# Altium integrated library WATECH IO BOARD.IntLib: 29 symbols
Pins are listed as number, name and electrical type; pins without a type are passive.

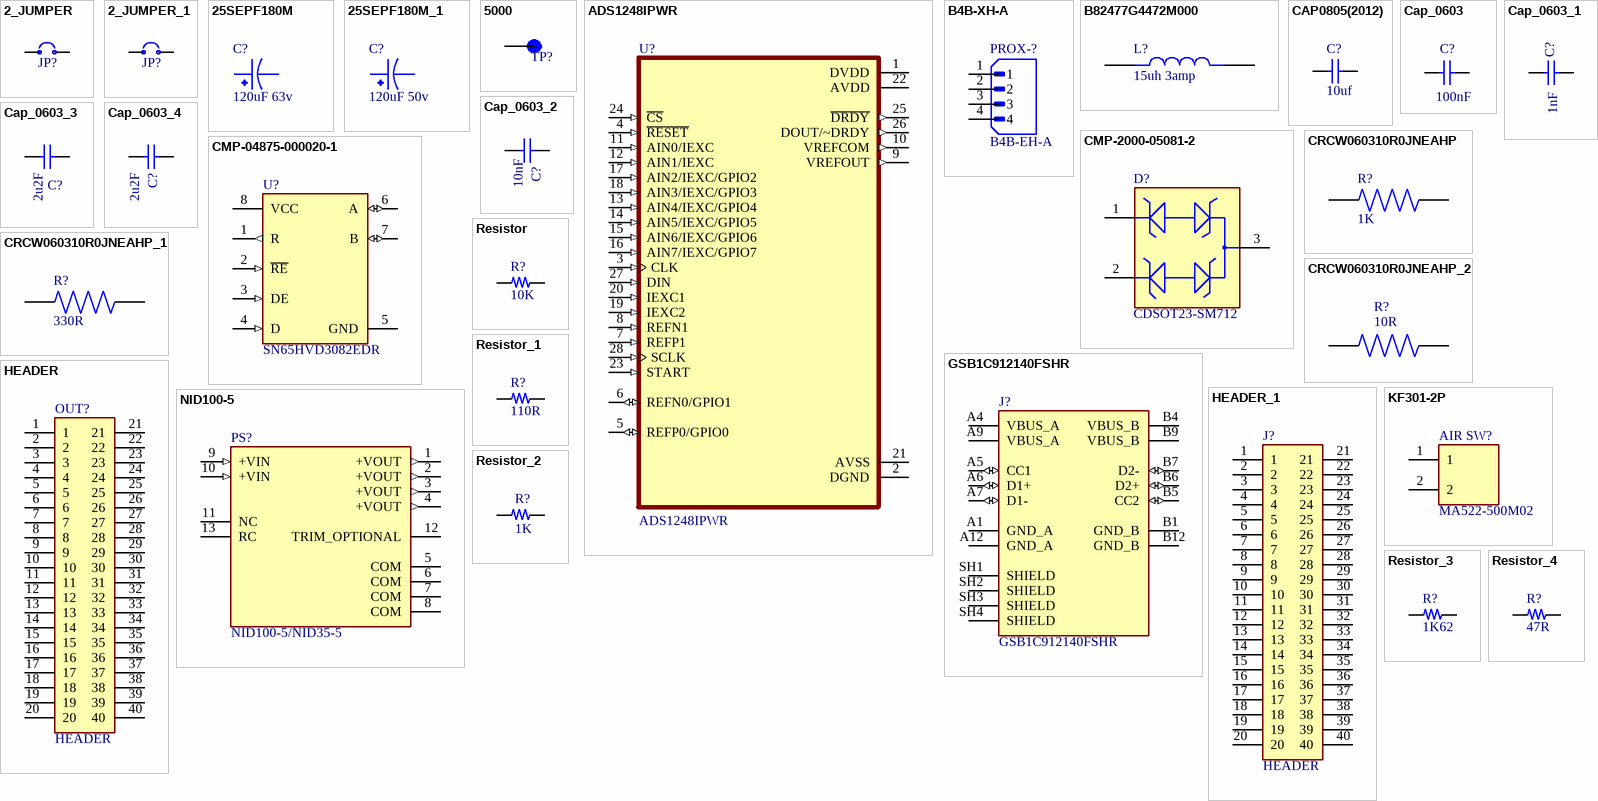
[diagram p0: symbols 2_JUMPER to Resistor_4]

## 2_JUMPER
designator JP?, comment Jumper  (value not drawn)
PH1.27-01-02PZD-XUNPU-Plugin,1×2 Pin 1.27mm Pin Headers ROHS; Manufacturer: XUNPU; Manufacturer Part Number: PH1.27-01-02PZD
footprint SULLINS_GRPB021VWVN-RC
pins: 1, 2

## 2_JUMPER_1
designator JP?, comment Jumper  (value not drawn)
Pin Header, Right Angle, Board-to-Board, 2.54 mm, 1 Rows, 2 Contacts, Through Hole Right Angle; Manufacturer: Wurth; Manufacturer Part Number: 61300211021
footprint HARWIN_M20-9990246
pins: 1, 2

## 25SEPF180M
designator C?, comment 120uF 63v
eCAP_GeneralPurpose_Panasonic_120uF-63V_pn-; Manufacturer Part Number: EEUFR1J121L; SnapEDA_Link: https://www.snapeda.com/parts/25SEPF180M/Panasonic/view-part/?ref=snap; Check_prices: https://www.snapeda.com/parts/25SEPF180M/Panasonic/view-part/?ref=eda; Availability: In Stock; Value: 120 uF; Manufacturer: Panasonic; Price: None; Package: RADIAL-2 Panasonic; Purchase-URL: https://pricing.snapeda.com/search/part/25SEPF180M/?ref=eda
footprint CAPPRD350W60D800H1200
footprint CAPPRD500W60D1000H1800
pins: 1, 2

## 25SEPF180M_1
designator C?, comment 120uF 50v
eCAP_GeneralPurpose_Panasonic_120uF-63V_pn-; Manufacturer Part Number: EEUFR1J121L; SnapEDA_Link: https://www.snapeda.com/parts/25SEPF180M/Panasonic/view-part/?ref=snap; Check_prices: https://www.snapeda.com/parts/25SEPF180M/Panasonic/view-part/?ref=eda; Availability: In Stock; Value: 120 uF; Manufacturer: Panasonic; Price: None; Package: RADIAL-2 Panasonic; Purchase-URL: https://pricing.snapeda.com/search/part/25SEPF180M/?ref=eda
footprint CAPPRD350W60D800H1200
footprint CAPPRD500W60D1000H1800
pins: 1, 2

## 5000
designator TP?  (value not drawn)
Test Point Miniature THM H .300 Nylon 46 Insulated Red PhosBronze/Silver | Keystone Electronics 5000; SnapEDA_Link: https://www.snapeda.com/parts/5000/Keystone/view-part/?ref=snap; Package: Test Point Keystone Electronics; Value: *; MF: Keystone Electronics; MP: 5000; Check_prices: https://www.snapeda.com/parts/5000/Keystone/view-part/?ref=eda
footprint KEYSTONE_5000
pins: TP

## ADS1248IPWR
designator U?
24-Bit, 2kSPS, 8-Ch Delta-Sigma ADC for Precision Sensor Measurement 28-TSSOP -40 to 125; Manufacturer: Texas Instruments; Manufacturer Part Number: ADS1248IPWR; Package: TSSOP-28 Texas Instruments; SnapEDA_Link: https://www.snapeda.com/parts/ADS1248IPWR/Texas%20Instruments/view-part/53511/?ref=snap; Check_prices: https://www.snapeda.com/parts/ADS1248IPWR/Texas%20Instruments/view-part/53511/?ref=eda; Purchase-URL: https://pricing.snapeda.com/search/part/ADS1248IPWR/?ref=eda; Availability: Warning; Value: *; Price: None
footprint SOP65P640X120-28N
footprint SOP65P640X120-28N
pins: 1 DVDD (power), 2 DGND (power), 3 CLK (in), 4 ~{RESET} (in), 5 REFP0/GPIO0 (io), 6 REFN0/GPIO1 (io), 7 REFP1 (in), 8 REFN1 (in), 9 VREFOUT (out), 10 VREFCOM (out), 11 AIN0/IEXC (in), 12 AIN1/IEXC (in), 13 AIN4/IEXC/GPIO4 (in), 14 AIN5/IEXC/GPIO5 (in), 15 AIN6/IEXC/GPIO6 (in), 16 AIN7/IEXC/GPIO7 (in), 17 AIN2/IEXC/GPIO2 (in), 18 AIN3/IEXC/GPIO3 (in), 19 IEXC2 (in), 20 IEXC1 (in), 21 AVSS (power), 22 AVDD (power), 23 START (in), 24 ~{CS} (in), 25 ~{DRDY} (out), 26 DOUT/~DRDY (out), 27 DIN (in), 28 SCLK (in)

## B4B-XH-A
designator PROX-?, comment B4B-EH-A
Connector Header Through Hole 4 position 0.098" (2.50mm); Manufacturer: JST; SnapEDA_Link: https://www.snapeda.com/parts/B4B-XH-A/JST/view-part/?ref=snap; Package: None; Value: *; Manufacturer Part Number: B4B-EH-A; Check_prices: https://www.snapeda.com/parts/B4B-XH-A/JST/view-part/?ref=eda
footprint TE_640453-4
footprint JST_B4B-EH-A
pins: 1, 2, 3, 4

## B82477G4472M000
designator L?, comment 15uh 3amp
150M-Power Inductor (SMD), 15 µH, 3 A, Shielded, 4 A, SRP7028CC Series; Manufacturer Part Number: SRP7028CC-150M-; Manufacturer: Bourns; Price: None; SnapEDA_Link: https://www.snapeda.com/parts/B82477G4472M000/EPCOS/view-part/?ref=snap; Package: NON STANDARD-2 EPCOS; Value: 15uH; Check_prices: https://www.snapeda.com/parts/B82477G4472M000/EPCOS/view-part/?ref=eda; Availability: In Stock; Purchase-URL: https://pricing.snapeda.com/search/part/B82477G4472M000/?ref=eda
footprint IND_B82477G4472M000
pins: 1, 2

## CAP0805(2012)
designator C?, comment 10uf
CAP, 10uF, 10%, 50V, SMD1210 / Capacitors MLCC – SMD/SMT ROHS; Manufacturer: Samsung Electro-Mechanics; Manufacturer Part Number: CL32B106KBJNNNE
footprint CAPC340270_190N_KEM
pins: 1, 2

## Cap_0603
designator C?, comment 100nF
0.1 µF ±10% 16V Ceramic Capacitor X7R 0603 (1608 Metric); Manufacturer Part Number: CC0603KRX7R7BB104; Manufacturer: YAGEO; Type: SMD; Package: 0805; Value: 100nF; Tolerance: ± 10%; Temperature Coefficient: X7R; Voltage Rating: 16 V
footprint RES_ERJU02F5102X
pins: 1, 2

## Cap_0603_1
designator C?, comment 1nF
50V 1nF ±5% 0402 Multilayer Ceramic Capacitors MLCC – SMD/SMT ROHS; Manufacturer Part Number: GCM1555C1H102JA16J; Manufacturer: Murata Electronics-; Type: SMD; Temperature Coefficient: X7R; Package: 0402; Value: 1nF; Tolerance: ± 5%; Voltage Rating: 50 V
footprint CAP_0402
pins: 1, 2

## Cap_0603_2
designator C?, comment 10nF
C0402C103K5RECAUTO-KEMET-SMD Multilayer Ceramic Capacitor, ESD, 10000 pF, 50 V, 0402 [1005 Metric], ± 10%, X7R; Manufacturer: kemet; Type: SMD; Tolerance: +/-10%; Voltage Rating: 50v; Manufacturer Part Number: C0402C103K5RECAUTO; Operating Temperature: -55°C ~ 85°C; Package: 0402; Value: 10nF; Temperature Coefficient: x7r
footprint CAP_0402
pins: 1, 2

## Cap_0603_3
designator C?, comment 2u2F
GCM188R70J225KE22J-Murata Electronics-6.3V 2.2uF X7R ±10% 0603 Multilayer Ceramic Capacitors MLCC – SMD/SMT ROHS; Manufacturer: MURATA; Type: SMD; Value: 10uF; Tolerance: +/-10%; Voltage Rating: 6.3V; Manufacturer Part Number: GCM188R70J225KE22J-; Operating Temperature: -55°C ~ 155°C; Package: 0603; Temperature Coefficient: X7R
footprint CAPC1608X90N
pins: 1, 2

## Cap_0603_4
designator C?, comment 2u2F
GCM188R70J225KE22J-Murata Electronics-6.3V 2.2uF X7R ±10% 0603 Multilayer Ceramic Capacitors MLCC – SMD/SMT ROHS; Manufacturer: MURATA; Type: SMD; Tolerance: +/-10%; Voltage Rating: 6.3V; Manufacturer Part Number: GCM188R70J225KE22J-; Operating Temperature: -55°C ~ 155°C; Package: 0603; Value: 2u2F; Temperature Coefficient: X7R
footprint CAPC1608X90N
pins: 1, 2

## CMP-2000-05081-2
designator D?, comment CDSOT23-SM712
TVS DIODE 7V/12V 14V/26V SOT23-3; Manufacturer: Bourns Inc.; Peak Pulse Current: 17A; Standoff Height: 0.05mm; Breakdown Voltage: 7.5V; Direction: Bidirectional; Clamping Voltage: 26V; Value: 75pF; Number Of Channels: 2; Reverse Standoff Voltage: 12V; Peak Pulse Power: 400W; Temperature Range Low: -55°C; Mouser Description: Transient Voltage Suppressor, TVS, CDSOT23 Series, Unidirectional, 12 V, SOT-23, 3, 13.3 V; Device Class L3: unset; Package: SOT23; Height: 1.17mm; RoHS: TRUE; Octopart: https://octopart.com/cdsot23-sm712-bourns-7576327; Category: Diode; Ipc Land Pattern Name: SOT95P229X103-3; ComponentLink2URL: https://www.bourns.com/docs/Product-Datasheets/CDSOT23-SM712.pdf; Temperature Range High: +150°C; ComponentLink2Description: Datasheet; Digikey Description: TVS DIODE 7V/12V 14V/26V SOT23-3; Manufacturer Part Number: CDSOT23-SM712; Temperature: -55°C to +150°C; Device Class L2: TVS Diodes; Lead Free: Yes; Device Class L1: Circuit Protection; Automotive: No; Capacitance: 75pF
footprint FP-SOT23-IPC_A
pins: 1, 2, 3

## CMP-04875-000020-1
designator U?, comment SN65HVD3082EDR
IC TRANSCEIVER HALF 1/1 8SOIC; Manufacturer: Texas Instruments; Data Rate: 0.2Mbits/s; Standoff Height: 0.11mm; Max Junction Temp: +130°C; Number Of Transmitters: 1; Nominal Supply Current: 300-425uA; Min Supply Voltage: 4.5V; Simplex Duplex: Half Duplex; Max Supply Voltage: 5.5V; Interface: RS-485,RS-422; Lead Free: Yes; Temperature Range High: +85°C; Ambient Temperature Range High: +105°C; Octopart: https://octopart.com/sn65hvd3082edr-texas+instruments-712058; Automotive: No; Ambient Temperature Range Low: -40°C; RoHS: TRUE; Device Class L2: Interface ICs; Mouser Description: RS-485 Interface IC Low-Power RS-485 Transceiver; Package: D0008A; Digikey Description: IC TRANSCEIVER HALF 1/1 8SOIC; Device Class L1: Integrated Circuits (ICs); Height: 1.75mm; ComponentLink2Description: Datasheet; Category: IC; Temperature Range Low: -40°C; Number Of Receivers: 1; Device Class L3: RS-232 / RS-422 / RS-485 Interface ICs; Ipc Land Pattern Name: SOIC127P600X175-8; ComponentLink2URL: http://www.ti.com/lit/ds/symlink/sn65hvd3082e.pdf; Temperature: -40°C to +85°C; Manufacturer Part Number: SN65HVD3082EDR
footprint FP-D0008A-IPC_A
pins: 1 R (out), 2 ~{RE} (in), 3 DE (in), 4 D (in), 5 GND (power), 6 A (io), 7 B (io), 8 VCC (power)

## CRCW060310R0JNEAHP
designator R?, comment 1K
RC0402FR-071KL,YAGEO,1 kOhms ±1% 0.063W, 1/16W Chip Resistor 0402 (1005 Metric) Moisture Resistant Thick Film; Tolerance: ±5%; Temperature Coefficient: ±200ppm/°C; Power Rating: 100mW; Type: SMD; Package: 0402; Value: 1k; Manufacturer: yageo; Manufacturer Part Number: RC0402FR-071KL; Parameter 1: *
footprint RESC1608X55N
footprint RES_0402
pins: 1, 2

## CRCW060310R0JNEAHP_1
designator R?, comment 330R
-SMD Chip Resistor, 330 ohm, ± 1%, 100 mW, 0603 [1608 Metric], Thick Film, Precision; Manufacturer: -PANASONIC; Manufacturer Part Number: ERJ3EKF3300V; Value: 10R; Temperature Coefficient: ±100ppm/°C; Power Rating: 100mW; Type: SMD; Package: 0603; Tolerance: ±1%
footprint RES_0402
pins: 1, 2

## CRCW060310R0JNEAHP_2
designator R?, comment 10R
RC0402FR-0710RL-YAGEO-Res Thick Film 0402 10 Ohm 1% 0.063W(1/16W) ±200ppm/°C Pad SMD T/R; Manufacturer: Yageo; Power Rating: 100mW; Type: SMD; Package: 0402; Value: 10R; Manufacturer Part Number: RC0402FR-0710RL; Tolerance: ±1%; Temperature Coefficient: ±200ppm/°C
footprint RES_0402
pins: 1, 2

## GSB1C912140FSHR
designator J?
USB-connector_HROparts_C5370447; Manufacturer: HRO PARTS; Package: None; Price: None; Value: *; Manufacturer Part Number: C5370447; Availability: Unavailable
footprint TYPE-C-TH_TYPE-C-31-D-10
pins: A1 GND_A (power), A4 VBUS_A (power), A5 CC1 (io), A6 D1+ (io), A7 D1- (io), A9 VBUS_A (power), A12 GND_A (power), B1 GND_B (power), B4 VBUS_B (power), B5 CC2 (io), B6 D2+ (io), B7 D2- (io), B9 VBUS_B (power), B12 GND_B (power), SH1 SHIELD, SH2 SHIELD, SH3 SHIELD, SH4 SHIELD

## HEADER
designator OUT?
CONN_Header_Male_2x20pins_TH_Amphenol_pn-; Manufacturer Part Number: 10129381-940002BLF; Geometry.Height: 2.881mm; Manufacturer: AMPHENOL
footprint FP-N2540-6002RB-MFG
footprint SMTC-TSW-120-08-X-D-RA (.025 SQ Post Terminal Strip Assembly, 2x20 Pins, Right Angle, 2.54mm Pitch, Male)
footprint FP-N2540-6002RB-MFG
footprint 40pin Female1
footprint 61304021121
footprint 61304021121
pins: 1, 2, 3, 4, 5, 6, 7, 8, 9, 10, 11, 12, 13, 14, 15, 16, 17, 18, 19, 20, 21, 22, 23, 24, 25, 26, 27, 28, 29, 30, 31, 32, 33, 34, 35, 36, 37, 38, 39, 40

## HEADER_1
designator J?, comment HEADER
CONN_Header_Female_2x20pins_TH_Wurth_pn-61304021821; Manufacturer: wurth; Geometry.Height: 2.881mm; Manufacturer Part Number: 61304021821
footprint FP-N2540-6002RB-MFG
footprint SMTC-TSW-120-08-X-D-RA (.025 SQ Post Terminal Strip Assembly, 2x20 Pins, Right Angle, 2.54mm Pitch, Male)
footprint 40pin Female1
pins: 1, 2, 3, 4, 5, 6, 7, 8, 9, 10, 11, 12, 13, 14, 15, 16, 17, 18, 19, 20, 21, 22, 23, 24, 25, 26, 27, 28, 29, 30, 31, 32, 33, 34, 35, 36, 37, 38, 39, 40

## KF301-2P
designator AIR SW?, comment MA522-500M02
CONN_ScrewTerminal_1x2pins_5mm_TH_MultiCompPro_pn-MA522-500M02; Package: None; Value: *; Manufacturer: MULTICOMP PRO; Manufacturer Part Number: MA522-500M02
footprint HANDSON_KF301-2P
pins: 1, 2

## NID100-5
designator PS?, comment NID100-5/NID35-5
Non-Isolated PoL Module DC DC Converter 1 Output 5V 11A 10.5V - 53V Input; Manufacturer: MEANWELL; Value: *; Availability: Unavailable; Price: None; Package: None; Manufacturer Part Number: NID35-5
footprint CONV_NID100-5
pins: 1 +VOUT (out), 2 +VOUT (out), 3 +VOUT (out), 4 +VOUT (out), 5 COM, 6 COM, 7 COM, 8 COM, 9 +VIN (in), 10 +VIN (in), 11 NC, 12 TRIM_OPTIONAL, 13 RC

## Resistor
designator R?, comment 10K
120 Ohms ±1% 0.1W, 1/10W Chip Resistor 0402 (1005 Metric) Automotive AEC-Q200 Thick Film; Manufacturer: PANASONIC; Manufacturer Part Number: ERJ2RKF1200X; Temperature Coefficient: ±100ppm/℃; Power Rating: 100mW; Value: *; Tolerance: ±1 %; Type: SMD; Package: 0402
footprint RES_0402
pins: 1, 2

## Resistor_1
designator R?, comment 110R
RC0603FR-07110RL-YAGEO-100mW Thick Film Resistors 75V ±100ppm/℃ ±1% 110Ω 0603 Chip Resistor – Surface Mount ROHS; Manufacturer: YAGEO; Power Rating: 100mW; Value: 110R; Manufacturer Part Number: RC0603FR-07110RL; Tolerance: ±1 %; Temperature Coefficient: ±100ppm/℃; Type: SMD; Package: 0603
footprint RESC1608X55N
pins: 1, 2

## Resistor_2
designator R?, comment 1K
SMD Chip Resistor,1 kOhms, ±1% 0.063W, 1/16W  0402 Metal Film (Thin Film); Manufacturer: yageo; Manufacturer Part Number: RC0402FR-071KL; Tolerance: ±0.1 %; Temperature Coefficient: 25ppm/k; Power Rating: 100mW; Value: 1k; Operating Temperature: -55°C ~ 155°C; Type: SMD; Package: 0603
footprint RES_0402
pins: 1, 2

## Resistor_3
designator R?, comment 1K62
SMD Chip Resistor, 1.62 kohm, ± 0.1%, 63 mW, 0402 [1005 Metric], Thin Film; Manufacturer: Yageo; Manufacturer Part Number: RT0402BRD071K62L; Value: *; Tolerance: ±0.1%; Temperature Coefficient: *; Operating Temperature: -55°C ~ 155°C; Type: SMD; Package: 0402; Power Rating: *
footprint RES_0402
pins: 1, 2

## Resistor_4
designator R?, comment 47R
Res Thick Film 0402 47 Ohm 1% 0.063W(1/16W) ±100ppm/°C Pad SMD T/R; Manufacturer: YAGEO; Manufacturer Part Number: RC0402FR-0747RL; Value: 47R; Tolerance: ±1 %; Temperature Coefficient: *; Operating Temperature: -55°C ~ 155°C; Type: SMD; Package: 0402; Power Rating: *
footprint RES_0402
pins: 1, 2